# Altium integrated library Voltage Regulator - Linear.IntLib: 54 symbols
Pins are listed as number, name and electrical type; pins without a type are passive.

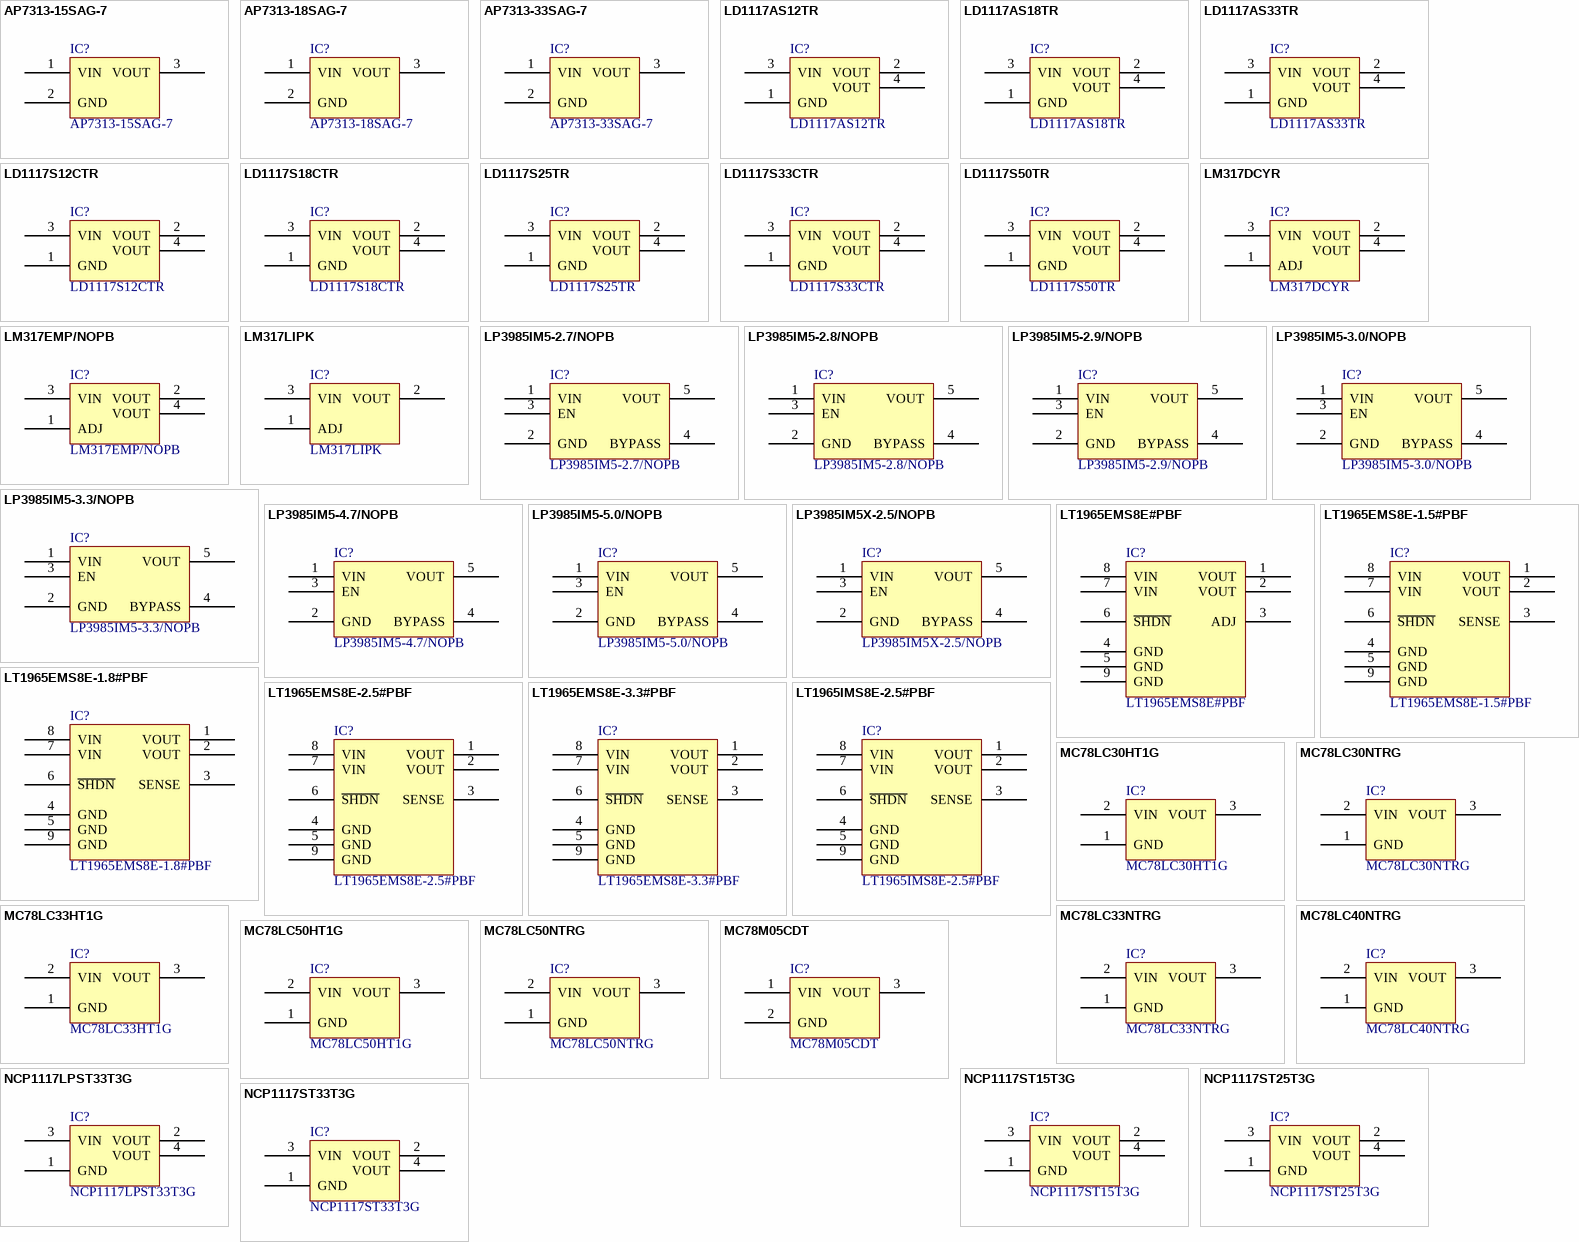
[diagram p0: symbols AP7313-15SAG-7 to NCP1117ST33T3G]

## AP7313-15SAG-7
designator IC?
IC REG LDO 1.5V 0.15A SOT23-3; Manufacturer: Diodes Incorporated; Topology: Positive Fixed; Voltage - Input: 2 V ~ 6 V; Current - Limit (Min): 200mA; Part Number: AP7313-15SAG-7; PartId: 7913; Supplier 1: Digi-Key; Supplier Part Number 1: AP7313-15SAG-7DITR-ND; ComponentLink1Description: Datasheet; ComponentLink1URL: http://www.diodes.com/_files/datasheets/AP7313.pdf; ComponentLink2Description: Digi-Key Listing; ComponentLink2URL: http://www.digikey.ca/product-detail/en/AP7313-15SAG-7/AP7313-15SAG-7DITR-ND/2270803; Price: 0.1675; Device Package: TO-236-3, SC-59, SOT-23-3; Voltage - Output: 1.5V; Voltage Dropout: -; Operating Temperature: -40C ~ 85C
footprint DIODES SOT-23-3
pins: 1 VIN, 2 GND, 3 VOUT

## AP7313-18SAG-7
designator IC?
IC REG LDO 1.8V 0.15A SOT23-3; Manufacturer: Diodes Incorporated; Topology: Positive Fixed; Voltage - Input: 2 V ~ 6 V; Current - Limit (Min): 200mA; Part Number: AP7313-18SAG-7; PartId: 7912; Supplier 1: Digi-Key; Supplier Part Number 1: AP7313-18SAG-7DITR-ND; ComponentLink1Description: Datasheet; ComponentLink1URL: http://www.diodes.com/_files/datasheets/AP7313.pdf; ComponentLink2Description: Digi-Key Listing; ComponentLink2URL: http://www.digikey.ca/product-detail/en/AP7313-18SAG-7/AP7313-18SAG-7DITR-ND/2270804; Price: 0.1675; Device Package: TO-236-3, SC-59, SOT-23-3; Voltage - Output: 1.8V; Voltage Dropout: -; Operating Temperature: -40C ~ 85C
footprint DIODES SOT-23-3
pins: 1 VIN, 2 GND, 3 VOUT

## AP7313-33SAG-7
designator IC?
IC REG LDO 3.3V 0.15A SOT23-3; Manufacturer: Diodes Incorporated; Topology: Positive Fixed; Voltage Dropout: 0.15V @ 150mA; Voltage - Input: Up to 6V; Current - Limit (Min): 200mA; Part Number: AP7313-33SAG-7; PartId: 7911; Supplier 1: Digi-Key; Supplier Part Number 1: AP7313-33SAG-7DITR-ND; ComponentLink1Description: Datasheet; ComponentLink1URL: http://www.diodes.com/_files/datasheets/AP7313.pdf; ComponentLink2Description: Digi-Key Listing; ComponentLink2URL: http://www.digikey.ca/product-detail/en/AP7313-33SAG-7/AP7313-33SAG-7DITR-ND/2270806; Price: 0.1675; Device Package: TO-236-3, SC-59, SOT-23-3; Voltage - Output: 3.3V; Operating Temperature: -40C ~ 85C
footprint DIODES SOT-23-3
pins: 1 VIN, 2 GND, 3 VOUT

## LD1117AS12TR
designator IC?
IC REG LDO 1.2V 1A SOT223; Manufacturer: STMicroelectronics; Topology: Positive Fixed; Voltage Dropout: 1.15V @ 1A; Voltage - Input: Up to 15V; Part Number: LD1117AS12TR; PartId: 7957; Supplier 1: Digi-Key; Supplier Part Number 1: 497-6445-2-ND; ComponentLink1Description: Datasheet; ComponentLink1URL: http://www.st.com/web/en/resource/technical/document/datasheet/CD00002116.pdf; ComponentLink2Description: Digi-Key Listing; ComponentLink2URL: http://www.digikey.com/product-detail/en/LD1117AS12TR/497-6445-2-ND/1038354; Price: 0.2537; Device Package: TO-261-4, TO-261AA; Voltage - Output: 1.2V; Current - Limit (Min): -; Operating Temperature: 0C ~ 125C
footprint ST SOT-223
pins: 1 GND, 2 VOUT, 3 VIN, 4 VOUT

## LD1117AS18TR
designator IC?
IC REG LDO 1.8V 1A SOT223; Manufacturer: STMicroelectronics; Topology: Positive Fixed; Voltage Dropout: 1.15V @ 1A; Voltage - Input: Up to 15V; Part Number: LD1117AS18TR; PartId: 7958; Supplier 1: Digi-Key; Supplier Part Number 1: 497-1226-2-ND; ComponentLink1Description: Datasheet; ComponentLink1URL: http://www.st.com/web/en/resource/technical/document/datasheet/CD00002116.pdf; ComponentLink2Description: Digi-Key Listing; ComponentLink2URL: http://www.digikey.com/product-detail/en/LD1117AS18TR/497-1226-2-ND/585750; Price: 0.2479; Device Package: TO-261-4, TO-261AA; Voltage - Output: 1.8V; Current - Limit (Min): -; Operating Temperature: 0C ~ 125C
footprint ST SOT-223
pins: 1 GND, 2 VOUT, 3 VIN, 4 VOUT

## LD1117AS33TR
designator IC?
IC REG LDO 3.3V 1A SOT223; Manufacturer: STMicroelectronics; Topology: Positive Fixed; Voltage Dropout: 1.15V @ 1A; Voltage - Input: Up to 15V; Part Number: LD1117AS33TR; PartId: 7959; Supplier 1: Digi-Key; Supplier Part Number 1: 497-1228-2-ND; ComponentLink1Description: Datasheet; ComponentLink1URL: http://www.st.com/web/en/resource/technical/document/datasheet/CD00002116.pdf; ComponentLink2Description: Digi-Key Listing; ComponentLink2URL: http://www.digikey.com/product-detail/en/LD1117AS33TR/497-1228-2-ND/585752; Price: 0.2479; Device Package: TO-261-4, TO-261AA; Voltage - Output: 3.3V; Current - Limit (Min): -; Operating Temperature: 0C ~ 125C
footprint ST SOT-223
pins: 1 GND, 2 VOUT, 3 VIN, 4 VOUT

## LD1117S12CTR
designator IC?
IC REG LDO 1.2V 0.8A SOT223; Manufacturer: STMicroelectronics; Topology: Positive Fixed; Voltage Dropout: 1.1V @ 800mA; Voltage - Input: Up to 15V; Part Number: LD1117S12CTR; PartId: 7960; Supplier 1: Digi-Key; Supplier Part Number 1: 497-6974-2-ND; ComponentLink1Description: Datasheet; ComponentLink1URL: http://www.st.com/web/en/resource/technical/document/datasheet/CD00000544.pdf; ComponentLink2Description: Digi-Key Listing; ComponentLink2URL: http://www.digikey.com/product-detail/en/LD1117S12CTR/497-6974-2-ND/1880164; Price: 0.1751; Device Package: TO-261-4, TO-261AA; Voltage - Output: 1.2V; Current - Limit (Min): -; Operating Temperature: -40C ~ 125C
footprint ST SOT-223
pins: 1 GND, 2 VOUT, 3 VIN, 4 VOUT

## LD1117S18CTR
designator IC?
IC REG LDO 1.8V 0.8A SOT223; Manufacturer: STMicroelectronics; Topology: Positive Fixed; Voltage Dropout: 1.1V @ 800mA; Voltage - Input: Up to 15V; Part Number: LD1117S18CTR; PartId: 7961; Supplier 1: Digi-Key; Supplier Part Number 1: 497-6868-2-ND; ComponentLink1Description: Datasheet; ComponentLink1URL: http://www.st.com/web/en/resource/technical/document/datasheet/CD00000544.pdf; ComponentLink2Description: Digi-Key Listing; ComponentLink2URL: http://www.digikey.com/product-detail/en/LD1117S18CTR/497-6868-2-ND/1820043; Price: 0.1627; Device Package: TO-261-4, TO-261AA; Voltage - Output: 1.8V; Current - Limit (Min): -; Operating Temperature: -40C ~ 125C
footprint ST SOT-223
pins: 1 GND, 2 VOUT, 3 VIN, 4 VOUT

## LD1117S25TR
designator IC?
IC REG LDO 2.5V 0.8A SOT223; Manufacturer: STMicroelectronics; Topology: Positive Fixed; Voltage Dropout: 1.1V @ 800mA; Voltage - Input: Up to 15V; Part Number: LD1117S25TR; PartId: 7962; Supplier 1: Digi-Key; Supplier Part Number 1: 497-7309-2-ND; ComponentLink1Description: Datasheet; ComponentLink1URL: http://www.st.com/web/en/resource/technical/document/datasheet/CD00000544.pdf; ComponentLink2Description: Digi-Key Listing; ComponentLink2URL: http://www.digikey.com/product-detail/en/LD1117S25TR/497-7309-2-ND/1663512; Price: 0.1336; Device Package: TO-261-4, TO-261AA; Voltage - Output: 2.5V; Current - Limit (Min): -; Operating Temperature: 0C ~ 125C
footprint ST SOT-223
pins: 1 GND, 2 VOUT, 3 VIN, 4 VOUT

## LD1117S33CTR
designator IC?
IC REG LDO 3.3V 0.8A SOT223; Manufacturer: STMicroelectronics; Topology: Positive Fixed; Voltage Dropout: 1.1V @ 800mA; Voltage - Input: Up to 15V; Part Number: LD1117S33CTR; PartId: 7963; Supplier 1: Digi-Key; Supplier Part Number 1: 497-1241-2-ND; ComponentLink1Description: Datasheet; ComponentLink1URL: http://www.st.com/web/en/resource/technical/document/datasheet/CD00000544.pdf; ComponentLink2Description: Digi-Key Listing; ComponentLink2URL: http://www.digikey.com/product-detail/en/LD1117S33CTR/497-1241-2-ND/585765; Price: 0.127; Device Package: TO-261-4, TO-261AA; Voltage - Output: 3.3V; Current - Limit (Min): -; Operating Temperature: -40C ~ 125C
footprint ST SOT-223
pins: 1 GND, 2 VOUT, 3 VIN, 4 VOUT

## LD1117S50TR
designator IC?
IC REG LDO 5V 0.8A SOT223; Manufacturer: STMicroelectronics; Topology: Positive Fixed; Voltage Dropout: 1.1V @ 800mA; Voltage - Input: Up to 15V; Part Number: LD1117S50TR; PartId: 7964; Supplier 1: Digi-Key; Supplier Part Number 1: 497-6447-2-ND; ComponentLink1Description: Datasheet; ComponentLink1URL: http://www.st.com/web/en/resource/technical/document/datasheet/CD00000544.pdf; ComponentLink2Description: Digi-Key Listing; ComponentLink2URL: http://www.digikey.com/product-detail/en/LD1117S50TR/497-6447-2-ND/1038360; Price: 0.127; Device Package: TO-261-4, TO-261AA; Voltage - Output: 5V; Current - Limit (Min): -; Operating Temperature: 0C ~ 125C
footprint ST SOT-223
pins: 1 GND, 2 VOUT, 3 VIN, 4 VOUT

## LM317DCYR
designator IC?
IC REG LDO ADJ 1.5A SOT223; Manufacturer: Texas Instruments; Topology: Positive Adjustable; Voltage - Output: 1.25 V ~ 37 V; Voltage - Input: 4.2 V ~ 40 V; Part Number: LM317DCYR; PartId: 7937; Supplier 1: Digi-Key; Supplier Part Number 1: 296-12602-2-ND; ComponentLink1Description: Datasheet; ComponentLink1URL: http://www.ti.com/lit/ds/symlink/lm317.pdf; ComponentLink2Description: Digi-Key Listing; ComponentLink2URL: http://www.digikey.ca/product-detail/en/LM317DCYR/296-12602-2-ND/443739; Price: 0.433; Device Package: TO-261-4, TO-261AA; Voltage Dropout: -; Current - Limit (Min): -; Operating Temperature: 0C ~ 125C
footprint TI SOT-223 DCY
pins: 1 ADJ, 2 VOUT, 3 VIN, 4 VOUT

## LM317EMP/NOPB
designator IC?
IC REG LDO ADJ 1A SOT223; Manufacturer: Texas Instruments; Topology: Positive Adjustable; Voltage - Output: 1.25 V ~ 37 V; Voltage - Input: 4.2 V ~ 37 V; Part Number: LM317EMP/NOPB; PartId: 7936; Supplier 1: Digi-Key; Supplier Part Number 1: LM317EMP/NOPBTR-ND; ComponentLink1Description: Datasheet; ComponentLink1URL: http://www.ti.com/lit/ds/symlink/lm117.pdf; ComponentLink2Description: Digi-Key Listing; ComponentLink2URL: http://www.digikey.ca/product-detail/en/LM317EMP%2FNOPB/LM317EMP%2FNOPBTR-ND/270715; Price: 0.7637; Device Package: TO-261-4, TO-261AA; Voltage Dropout: -; Current - Limit (Min): -; Operating Temperature: 0C ~ 125C
footprint TI SOT-223 DCY
pins: 1 ADJ, 2 VOUT, 3 VIN, 4 VOUT

## LM317LIPK
designator IC?
IC REG LDO ADJ 0.1A SOT89-3; Manufacturer: Texas Instruments; Topology: Positive Adjustable; Voltage - Output: 1.2 V ~ 32 V; Voltage - Input: 3.7 V ~ 38 V; Part Number: LM317LIPK; PartId: 7935; Supplier 1: Digi-Key; Supplier Part Number 1: 296-21742-2-ND; ComponentLink1Description: Datasheet; ComponentLink1URL: http://www.ti.com/lit/ds/symlink/lm317l.pdf; ComponentLink2Description: Digi-Key Listing; ComponentLink2URL: http://www.digikey.ca/product-detail/en/LM317LIPK/296-21742-2-ND/1628961; Price: 0.4396; Device Package: TO-243AA; Voltage Dropout: -; Current - Limit (Min): -; Operating Temperature: -40C ~ 125C
footprint TI SOT-89 PK
pins: 1 ADJ, 2 VOUT, 3 VIN

## LP3985IM5-2.7/NOPB
designator IC?
IC REG LDO 2.7V 0.15A SOT23-5; Manufacturer: Texas Instruments; Topology: Positive Fixed; Voltage Dropout: 0.06V @ 150mA; Voltage - Input: Up to 6V; Current - Limit (Min): 300mA; Part Number: LP3985IM5-2.7/NOPB; PartId: 7938; Supplier 1: Digi-Key; Supplier Part Number 1: LP3985IM5-2.7/NOPBTR-ND; ComponentLink1Description: Datasheet; ComponentLink1URL: http://www.ti.com/lit/ds/symlink/lp3985.pdf; ComponentLink2Description: Digi-Key Listing; ComponentLink2URL: http://www.digikey.ca/product-detail/en/LP3985IM5-2.7%2FNOPB/LP3985IM5-2.7%2FNOPBTR-ND/570140; Price: 0.2855; Device Package: SC-74A, SOT-753; Voltage - Output: 2.7V; Operating Temperature: -40C ~ 125C
footprint TI SOT-23-5 DBV
pins: 1 VIN, 2 GND, 3 EN, 4 BYPASS, 5 VOUT

## LP3985IM5-2.8/NOPB
designator IC?
IC REG LDO 2.8V 0.15A SOT23-5; Manufacturer: Texas Instruments; Topology: Positive Fixed; Voltage Dropout: 0.06V @ 150mA; Voltage - Input: Up to 6V; Current - Limit (Min): 300mA; Part Number: LP3985IM5-2.8/NOPB; PartId: 7939; Supplier 1: Digi-Key; Supplier Part Number 1: LP3985IM5-2.8/NOPBTR-ND; ComponentLink1Description: Datasheet; ComponentLink1URL: http://www.ti.com/lit/ds/symlink/lp3985.pdf; ComponentLink2Description: Digi-Key Listing; ComponentLink2URL: http://www.digikey.ca/product-detail/en/LP3985IM5-2.8%2FNOPB/LP3985IM5-2.8%2FNOPBTR-ND/499326; Price: 0.2855; Device Package: SC-74A, SOT-753; Voltage - Output: 2.8V; Operating Temperature: -40C ~ 125C
footprint TI SOT-23-5 DBV
pins: 1 VIN, 2 GND, 3 EN, 4 BYPASS, 5 VOUT

## LP3985IM5-2.9/NOPB
designator IC?
IC REG LDO 2.9V 0.15A SOT23-5; Manufacturer: Texas Instruments; Topology: Positive Fixed; Voltage Dropout: 0.06V @ 150mA; Voltage - Input: Up to 6V; Current - Limit (Min): 300mA; Part Number: LP3985IM5-2.9/NOPB; PartId: 7940; Supplier 1: Digi-Key; Supplier Part Number 1: LP3985IM5-2.9/NOPBTR-ND; ComponentLink1Description: Datasheet; ComponentLink1URL: http://www.ti.com/lit/ds/symlink/lp3985.pdf; ComponentLink2Description: Digi-Key Listing; ComponentLink2URL: http://www.digikey.ca/product-detail/en/LP3985IM5-2.9%2FNOPB/LP3985IM5-2.9%2FNOPBTR-ND/570141; Price: 0.2855; Device Package: SC-74A, SOT-753; Voltage - Output: 2.9V; Operating Temperature: -40C ~ 125C
footprint TI SOT-23-5 DBV
pins: 1 VIN, 2 GND, 3 EN, 4 BYPASS, 5 VOUT

## LP3985IM5-3.0/NOPB
designator IC?
IC REG LDO 3V 0.15A SOT23-5; Manufacturer: Texas Instruments; Topology: Positive Fixed; Voltage Dropout: 0.06V @ 150mA; Voltage - Input: Up to 6V; Current - Limit (Min): 300mA; Part Number: LP3985IM5-3.0/NOPB; PartId: 7941; Supplier 1: Digi-Key; Supplier Part Number 1: LP3985IM5-3.0/NOPBTR-ND; ComponentLink1Description: Datasheet; ComponentLink1URL: http://www.ti.com/lit/ds/symlink/lp3985.pdf; ComponentLink2Description: Digi-Key Listing; ComponentLink2URL: http://www.digikey.ca/product-detail/en/LP3985IM5-3.0%2FNOPB/LP3985IM5-3.0%2FNOPBTR-ND/440983; Price: 0.2855; Device Package: SC-74A, SOT-753; Voltage - Output: 3V; Operating Temperature: -40C ~ 125C
footprint TI SOT-23-5 DBV
pins: 1 VIN, 2 GND, 3 EN, 4 BYPASS, 5 VOUT

## LP3985IM5-3.3/NOPB
designator IC?
IC REG LDO 3.3V 0.15A SOT23-5; Manufacturer: Texas Instruments; Topology: Positive Fixed; Voltage Dropout: 0.06V @ 150mA; Voltage - Input: Up to 6V; Current - Limit (Min): 300mA; Part Number: LP3985IM5-3.3/NOPB; PartId: 7942; Supplier 1: Digi-Key; Supplier Part Number 1: LP3985IM5-3.3/NOPBTR-ND; ComponentLink1Description: Datasheet; ComponentLink1URL: http://www.ti.com/lit/ds/symlink/lp3985.pdf; ComponentLink2Description: Digi-Key Listing; ComponentLink2URL: http://www.digikey.ca/product-detail/en/LP3985IM5-3.3%2FNOPB/LP3985IM5-3.3%2FNOPBTR-ND/440984; Price: 0.2855; Device Package: SC-74A, SOT-753; Voltage - Output: 3.3V; Operating Temperature: -40C ~ 125C
footprint TI SOT-23-5 DBV
pins: 1 VIN, 2 GND, 3 EN, 4 BYPASS, 5 VOUT

## LP3985IM5-4.7/NOPB
designator IC?
IC REG LDO 4.7V 0.15A SOT23-5; Manufacturer: Texas Instruments; Topology: Positive Fixed; Voltage Dropout: 0.06V @ 150mA; Voltage - Input: Up to 6V; Current - Limit (Min): 300mA; Part Number: LP3985IM5-4.7/NOPB; PartId: 7943; Supplier 1: Digi-Key; Supplier Part Number 1: LP3985IM5-4.7/NOPBTR-ND; ComponentLink1Description: Datasheet; ComponentLink1URL: http://www.ti.com/lit/ds/symlink/lp3985.pdf; ComponentLink2Description: Digi-Key Listing; ComponentLink2URL: http://www.digikey.ca/product-detail/en/LP3985IM5-4.7%2FNOPB/LP3985IM5-4.7%2FNOPBTR-ND/483050; Price: 0.2855; Device Package: SC-74A, SOT-753; Voltage - Output: 4.7V; Operating Temperature: -40C ~ 125C
footprint TI SOT-23-5 DBV
pins: 1 VIN, 2 GND, 3 EN, 4 BYPASS, 5 VOUT

## LP3985IM5-5.0/NOPB
designator IC?
IC REG LDO 5V 0.15A SOT23-5; Manufacturer: Texas Instruments; Topology: Positive Fixed; Voltage Dropout: 0.06V @ 150mA; Voltage - Input: Up to 6V; Current - Limit (Min): 300mA; Part Number: LP3985IM5-5.0/NOPB; PartId: 7944; Supplier 1: Digi-Key; Supplier Part Number 1: LP3985IM5-5.0/NOPBTR-ND; ComponentLink1Description: Datasheet; ComponentLink1URL: http://www.ti.com/lit/ds/symlink/lp3985.pdf; ComponentLink2Description: Digi-Key Listing; ComponentLink2URL: http://www.digikey.ca/product-detail/en/LP3985IM5-5.0%2FNOPB/LP3985IM5-5.0%2FNOPBTR-ND/483051; Price: 0.2855; Device Package: SC-74A, SOT-753; Voltage - Output: 5V; Operating Temperature: -40C ~ 125C
footprint TI SOT-23-5 DBV
pins: 1 VIN, 2 GND, 3 EN, 4 BYPASS, 5 VOUT

## LP3985IM5X-2.5/NOPB
designator IC?
IC REG LDO 2.5V 0.15A SOT23-5; Manufacturer: Texas Instruments; Topology: Positive Fixed; Voltage Dropout: 0.06V @ 150mA; Voltage - Input: Up to 6V; Current - Limit (Min): 300mA; Part Number: LP3985IM5X-2.5/NOPB; PartId: 7945; Supplier 1: Digi-Key; Supplier Part Number 1: LP3985IM5X-2.5/NOPBTR-ND; ComponentLink1Description: Datasheet; ComponentLink1URL: http://www.ti.com/lit/ds/symlink/lp3985.pdf; ComponentLink2Description: Digi-Key Listing; ComponentLink2URL: http://www.digikey.ca/product-detail/en/LP3985IM5X-2.5%2FNOPB/LP3985IM5X-2.5%2FNOPBTR-ND/1872864; Price: 0.2855; Device Package: SC-74A, SOT-753; Voltage - Output: 2.5V; Operating Temperature: -40C ~ 125C
footprint TI SOT-23-5 DBV
pins: 1 VIN, 2 GND, 3 EN, 4 BYPASS, 5 VOUT

## LT1965EMS8E#PBF
designator IC?
IC REG LDO ADJ 1.1A 8MSOP; Manufacturer: Linear Technology; Topology: Positive Adjustable; Voltage - Output: 1.2 V ~ 19.5 V; Voltage Dropout: 0.31V @ 1.1A; Voltage - Input: 1.8 V ~ 20 V; Current - Limit (Min): 1.2A; Part Number: LT1965EMS8E#PBF; PartId: 7922; Supplier 1: Digi-Key; Supplier Part Number 1: LT1965EMS8E#PBF-ND; ComponentLink1Description: Datasheet; ComponentLink1URL: http://www.linear.com/docs/25320; ComponentLink2Description: Digi-Key Listing; ComponentLink2URL: http://www.digikey.ca/product-detail/en/LT1965EMS8E%23PBF/LT1965EMS8E%23PBF-ND/1730226; Price: 5.81; Device Package: 8-TSSOP, 8-MSOP (0.118", 3.00mm Width) Exposed Pad; Operating Temperature: -40C ~ 125C
footprint LT MSOP-8 MS8E 3x3MM
pins: 1 VOUT, 2 VOUT, 3 ADJ, 4 GND, 5 GND, 6 ~{SHDN}, 7 VIN, 8 VIN, 9 GND

## LT1965EMS8E-1.5#PBF
designator IC?
IC REG LDO 1.5V 1.1A 8MSOP; Manufacturer: Linear Technology; Topology: Positive Fixed; Voltage Dropout: 0.31V @ 1.1A; Voltage - Input: Up to 20V; Current - Limit (Min): 1.2A; Part Number: LT1965EMS8E-1.5#PBF; PartId: 7921; Supplier 1: Digi-Key; Supplier Part Number 1: LT1965EMS8E-1.5#PBF-ND; ComponentLink1Description: Datasheet; ComponentLink1URL: http://www.linear.com/docs/25320; ComponentLink2Description: Digi-Key Listing; ComponentLink2URL: http://www.digikey.ca/product-detail/en/LT1965EMS8E-1.5%23PBF/LT1965EMS8E-1.5%23PBF-ND/2074392; Price: 5.81; Device Package: 8-TSSOP, 8-MSOP (0.118", 3.00mm Width) Exposed Pad; Voltage - Output: 1.5V; Operating Temperature: -40C ~ 125C
footprint LT MSOP-8 MS8E 3x3MM
pins: 1 VOUT, 2 VOUT, 3 SENSE, 4 GND, 5 GND, 6 ~{SHDN}, 7 VIN, 8 VIN, 9 GND

## LT1965EMS8E-1.8#PBF
designator IC?
IC REG LDO 1.8V 1.1A 8MSOP; Manufacturer: Linear Technology; Topology: Positive Fixed; Voltage Dropout: 0.31V @ 1.1A; Voltage - Input: Up to 20V; Current - Limit (Min): 1.2A; Part Number: LT1965EMS8E-1.8#PBF; PartId: 7919; Supplier 1: Digi-Key; Supplier Part Number 1: LT1965EMS8E-1.8#PBF-ND; ComponentLink1Description: Datasheet; ComponentLink1URL: http://www.linear.com/docs/25320; ComponentLink2Description: Digi-Key Listing; ComponentLink2URL: http://www.digikey.ca/product-detail/en/LT1965EMS8E-1.8%23PBF/LT1965EMS8E-1.8%23PBF-ND/2074393; Price: 5.81; Device Package: 8-TSSOP, 8-MSOP (0.118", 3.00mm Width) Exposed Pad; Voltage - Output: 1.8V; Operating Temperature: -40C ~ 125C
footprint LT MSOP-8 MS8E 3x3MM
pins: 1 VOUT, 2 VOUT, 3 SENSE, 4 GND, 5 GND, 6 ~{SHDN}, 7 VIN, 8 VIN, 9 GND

## LT1965EMS8E-2.5#PBF
designator IC?
IC REG LDO 2.5V 1.1A 8MSOP; Manufacturer: Linear Technology; Topology: Positive Fixed; Voltage Dropout: 0.31V @ 1.1A; Voltage - Input: Up to 20V; Current - Limit (Min): 1.2A; Part Number: LT1965EMS8E-2.5#PBF; PartId: 7917; Supplier 1: Digi-Key; Supplier Part Number 1: LT1965EMS8E-2.5#PBF-ND; ComponentLink1Description: Datasheet; ComponentLink1URL: http://www.linear.com/docs/25320; ComponentLink2Description: Digi-Key Listing; ComponentLink2URL: http://www.digikey.ca/product-detail/en/LT1965EMS8E-2.5%23PBF/LT1965EMS8E-2.5%23PBF-ND/2074394; Price: 5.81; Device Package: 8-TSSOP, 8-MSOP (0.118", 3.00mm Width) Exposed Pad; Voltage - Output: 2.5V; Operating Temperature: -40C ~ 125C
footprint LT MSOP-8 MS8E 3x3MM
pins: 1 VOUT, 2 VOUT, 3 SENSE, 4 GND, 5 GND, 6 ~{SHDN}, 7 VIN, 8 VIN, 9 GND

## LT1965EMS8E-3.3#PBF
designator IC?
IC REG LDO 3.3V 1.1A 8MSOP; Manufacturer: Linear Technology; Topology: Positive Fixed; Voltage Dropout: 0.31V @ 1.1A; Voltage - Input: Up to 20V; Current - Limit (Min): 1.2A; Part Number: LT1965EMS8E-3.3#PBF; PartId: 7918; Supplier 1: Digi-Key; Supplier Part Number 1: LT1965EMS8E-3.3#PBF-ND; ComponentLink1Description: Datasheet; ComponentLink1URL: http://www.linear.com/docs/25320; ComponentLink2Description: Digi-Key Listing; ComponentLink2URL: http://www.digikey.ca/product-detail/en/LT1965EMS8E-3.3%23PBF/LT1965EMS8E-3.3%23PBF-ND/2074395; Price: 5.81; Device Package: 8-TSSOP, 8-MSOP (0.118", 3.00mm Width) Exposed Pad; Voltage - Output: 3.3V; Operating Temperature: -40C ~ 125C
footprint LT MSOP-8 MS8E 3x3MM
pins: 1 VOUT, 2 VOUT, 3 SENSE, 4 GND, 5 GND, 6 ~{SHDN}, 7 VIN, 8 VIN, 9 GND

## LT1965IMS8E-2.5#PBF
designator IC?
IC REG LDO 2.5V 1.1A 8MSOP; Manufacturer: Linear Technology; Topology: Positive Fixed; Voltage Dropout: 0.31V @ 1.1A; Voltage - Input: Up to 20V; Current - Limit (Min): 1.2A; Part Number: LT1965IMS8E-2.5#PBF; PartId: 7920; Supplier 1: Digi-Key; Supplier Part Number 1: LT1965IMS8E-2.5#PBF-ND; ComponentLink1Description: Datasheet; ComponentLink1URL: http://www.linear.com/docs/25320; ComponentLink2Description: Digi-Key Listing; ComponentLink2URL: http://www.digikey.ca/product-detail/en/LT1965IMS8E-2.5%23PBF/LT1965IMS8E-2.5%23PBF-ND/1931046; Price: 6.67; Device Package: 8-TSSOP, 8-MSOP (0.118", 3.00mm Width) Exposed Pad; Voltage - Output: 2.5V; Operating Temperature: -40C ~ 125C
footprint LT MSOP-8 MS8E 3x3MM
pins: 1 VOUT, 2 VOUT, 3 SENSE, 4 GND, 5 GND, 6 ~{SHDN}, 7 VIN, 8 VIN, 9 GND

## MC78LC30HT1G
designator IC?
IC REG LDO 3V 50MA SOT89-3; Manufacturer: ON Semiconductor; Topology: Positive Fixed; Voltage Dropout: 0.03V @ 1mA; Voltage - Input: Up to 12V; Part Number: MC78LC30HT1G; PartId: 7930; Supplier 1: Digi-Key; Supplier Part Number 1: MC78LC30HT1GOSTR-ND; ComponentLink1Description: Datasheet; ComponentLink1URL: http://www.onsemi.com/pub_link/Collateral/MC78LC00-D.PDF; ComponentLink2Description: Digi-Key Listing; ComponentLink2URL: http://www.digikey.ca/product-detail/en/MC78LC30HT1G/MC78LC30HT1GOSTR-ND/1481407; Price: 0.4396; Device Package: TO-243AA; Voltage - Output: 3V; Current - Limit (Min): -; Operating Temperature: -40C ~ 85C
footprint ON SEMI SOT-89 H
pins: 1 GND, 2 VIN, 3 VOUT

## MC78LC30NTRG
designator IC?
IC REG LDO 3V 50MA 5TSOP; Manufacturer: ON Semiconductor; Topology: Positive Fixed; Voltage Dropout: 0.03V @ 1mA; Voltage - Input: Up to 12V; Part Number: MC78LC30NTRG; PartId: 7923; Supplier 1: Digi-Key; Supplier Part Number 1: MC78LC30NTRGOSTR-ND; ComponentLink1Description: Datasheet; ComponentLink1URL: http://www.onsemi.com/pub_link/Collateral/MC78LC00-D.PDF; ComponentLink2Description: Digi-Key Listing; ComponentLink2URL: http://www.digikey.ca/product-detail/en/MC78LC30NTRG/MC78LC30NTRGOSTR-ND/919363; Price: 0.4618; Device Package: SOT-23-5 Thin, TSOT-23-5; Voltage - Output: 3V; Current - Limit (Min): -; Operating Temperature: -40C ~ 85C
footprint ON SEMI SOT-23-5 NTR
pins: 1 GND, 2 VIN, 3 VOUT

## MC78LC33HT1G
designator IC?
IC REG LDO 3.3V 50MA SOT89-3; Manufacturer: ON Semiconductor; Topology: Positive Fixed; Voltage Dropout: 0.03V @ 1mA; Voltage - Input: Up to 12V; Part Number: MC78LC33HT1G; PartId: 7927; Supplier 1: Digi-Key; Supplier Part Number 1: MC78LC33HT1GOSTR-ND; ComponentLink1Description: Datasheet; ComponentLink1URL: http://www.onsemi.com/pub_link/Collateral/MC78LC00-D.PDF; ComponentLink2Description: Digi-Key Listing; ComponentLink2URL: http://www.digikey.ca/product-detail/en/MC78LC33HT1G/MC78LC33HT1GOSTR-ND/919364; Price: 0.4396; Device Package: TO-243AA; Voltage - Output: 3.3V; Current - Limit (Min): -; Operating Temperature: -40C ~ 85C
footprint ON SEMI SOT-89 H
pins: 1 GND, 2 VIN, 3 VOUT

## MC78LC33NTRG
designator IC?
IC REG LDO 3.3V 50MA 5TSOP; Manufacturer: ON Semiconductor; Topology: Positive Fixed; Voltage Dropout: 0.03V @ 1mA; Voltage - Input: Up to 12V; Part Number: MC78LC33NTRG; PartId: 7924; Supplier 1: Digi-Key; Supplier Part Number 1: MC78LC33NTRGOSTR-ND; ComponentLink1Description: Datasheet; ComponentLink1URL: http://www.onsemi.com/pub_link/Collateral/MC78LC00-D.PDF; ComponentLink2Description: Digi-Key Listing; ComponentLink2URL: http://www.digikey.ca/product-detail/en/MC78LC33NTRG/MC78LC33NTRGOSTR-ND/919365; Price: 0.4618; Device Package: SOT-23-5 Thin, TSOT-23-5; Voltage - Output: 3.3V; Current - Limit (Min): -; Operating Temperature: -40C ~ 85C
footprint ON SEMI SOT-23-5 NTR
pins: 1 GND, 2 VIN, 3 VOUT

## MC78LC40NTRG
designator IC?
IC REG LDO 4V 80MA 5TSOP; Manufacturer: ON Semiconductor; Topology: Positive Fixed; Voltage Dropout: 0.03V @ 1mA; Voltage - Input: Up to 12V; Part Number: MC78LC40NTRG; PartId: 7925; Supplier 1: Digi-Key; Supplier Part Number 1: MC78LC40NTRGOSTR-ND; ComponentLink1Description: Datasheet; ComponentLink1URL: http://www.onsemi.com/pub_link/Collateral/MC78LC00-D.PDF; ComponentLink2Description: Digi-Key Listing; ComponentLink2URL: http://www.digikey.ca/product-detail/en/MC78LC40NTRG/MC78LC40NTRGOSTR-ND/1481410; Price: 0.4618; Device Package: SOT-23-5 Thin, TSOT-23-5; Voltage - Output: 4V; Current - Limit (Min): -; Operating Temperature: -40C ~ 85C
footprint ON SEMI SOT-23-5 NTR
pins: 1 GND, 2 VIN, 3 VOUT

## MC78LC50HT1G
designator IC?
IC REG LDO 5V 80MA SOT89-3; Manufacturer: ON Semiconductor; Topology: Positive Fixed; Voltage Dropout: 0.03V @ 1mA; Voltage - Input: Up to 12V; Part Number: MC78LC50HT1G; PartId: 7928; Supplier 1: Digi-Key; Supplier Part Number 1: MC78LC50HT1GOSTR-ND; ComponentLink1Description: Datasheet; ComponentLink1URL: http://www.onsemi.com/pub_link/Collateral/MC78LC00-D.PDF; ComponentLink2Description: Digi-Key Listing; ComponentLink2URL: http://www.digikey.ca/product-detail/en/MC78LC50HT1G/MC78LC50HT1GOSTR-ND/1749001; Price: 0.4396; Device Package: TO-243AA; Voltage - Output: 5V; Current - Limit (Min): -; Operating Temperature: -40C ~ 85C
footprint ON SEMI SOT-89 H
pins: 1 GND, 2 VIN, 3 VOUT

## MC78LC50NTRG
designator IC?
IC REG LDO 5V 80MA 5TSOP; Manufacturer: ON Semiconductor; Topology: Positive Fixed; Voltage Dropout: 0.03V @ 1mA; Voltage - Input: Up to 12V; Part Number: MC78LC50NTRG; PartId: 7926; Supplier 1: Digi-Key; Supplier Part Number 1: MC78LC50NTRGOSTR-ND; ComponentLink1Description: Datasheet; ComponentLink1URL: http://www.onsemi.com/pub_link/Collateral/MC78LC00-D.PDF; ComponentLink2Description: Digi-Key Listing; ComponentLink2URL: http://www.digikey.ca/product-detail/en/MC78LC50NTRG/MC78LC50NTRGOSTR-ND/919367; Price: 0.4618; Device Package: SOT-23-5 Thin, TSOT-23-5; Voltage - Output: 5V; Current - Limit (Min): -; Operating Temperature: -40C ~ 85C
footprint ON SEMI SOT-23-5 NTR
pins: 1 GND, 2 VIN, 3 VOUT

## MC78M05CDT
designator IC?
IC REG LDO 5V 80MA SOT89-3; Manufacturer: ON Semiconductor; Topology: Positive Fixed; Voltage Dropout: 0.03V @ 1mA; Voltage - Input: Up to 35V; Part Number: MC78M05CDT; Supplier 1: Digi-Key; Supplier Part Number 1: MC78M05CDTRKGOSTR-ND; ComponentLink1Description: Datasheet; ComponentLink1URL: http://www.onsemi.com/pub/Collateral/MC78M00-D.PDF; ComponentLink2Description: Digi-Key Listing; ComponentLink2URL: https://www.digikey.com/product-detail/en/on-semiconductor/MC78M05CDTRKG/MC78M05CDTRKGOSTR-ND/660633; Price: 0.157; Device Package: TO-252-3, DPak (2 Leads + Tab), SC-63; Voltage - Output: 5V; Current - Limit (Min): -; Operating Temperature: 0°C ~ 125°C
footprint ON SEMI TO-252-3
pins: 1 VIN, 2 GND, 3 VOUT

## NCP1117LPST33T3G
designator IC?
IC REG LDO 3.3V 1A SOT223; Manufacturer: ON Semiconductor; Topology: Positive Fixed; Voltage Dropout: 1.3V @ 1A; Voltage - Input: Up to 18V; Current - Limit (Min): 1.1A; Part Number: NCP1117LPST33T3G; PartId: 7931; Supplier 1: Digi-Key; Supplier Part Number 1: NCP1117LPST33T3GOSTR-ND; ComponentLink1Description: Datasheet; ComponentLink1URL: http://www.onsemi.com/pub_link/Collateral/NCP1117LP-D.PDF; ComponentLink2Description: Digi-Key Listing; ComponentLink2URL: http://www.digikey.ca/product-detail/en/NCP1117LPST33T3G/NCP1117LPST33T3GOSTR-ND/2194024; Price: 0.1843; Device Package: TO-261-4, TO-261AA; Voltage - Output: 3.3V; Operating Temperature: 0C ~ 125C
footprint ON SEMI SOT-223 ST(318H)
pins: 1 GND, 2 VOUT, 3 VIN, 4 VOUT

## NCP1117ST15T3G
designator IC?
IC REG LDO 1.5V 1A SOT223; Manufacturer: ON Semiconductor; Topology: Positive Fixed; Voltage Dropout: 1.07V @ 800mA; Voltage - Input: Up to 20V; Part Number: NCP1117ST15T3G; PartId: 7934; Supplier 1: Digi-Key; Supplier Part Number 1: NCP1117ST15T3GOSTR-ND; ComponentLink1Description: Datasheet; ComponentLink1URL: http://www.onsemi.com/pub_link/Collateral/NCP1117-D.PDF; ComponentLink2Description: Digi-Key Listing; ComponentLink2URL: http://www.digikey.ca/product-detail/en/NCP1117ST15T3G/NCP1117ST15T3GOSTR-ND/921287; Price: 0.2342; Device Package: TO-261-4, TO-261AA; Voltage - Output: 1.5V; Current - Limit (Min): 1A; Operating Temperature: 0C ~ 125C
footprint ON SEMI SOT-223 ST(318H)
pins: 1 GND, 2 VOUT, 3 VIN, 4 VOUT

## NCP1117ST25T3G
designator IC?
IC REG LDO 2.5V 1A SOT223; Manufacturer: ON Semiconductor; Topology: Positive Fixed; Voltage Dropout: 1.07V @ 800mA; Voltage - Input: Up to 20V; Part Number: NCP1117ST25T3G; PartId: 7933; Supplier 1: Digi-Key; Supplier Part Number 1: NCP1117ST25T3GOSTR-ND; ComponentLink1Description: Datasheet; ComponentLink1URL: http://www.onsemi.com/pub_link/Collateral/NCP1117-D.PDF; ComponentLink2Description: Digi-Key Listing; ComponentLink2URL: http://www.digikey.ca/product-detail/en/NCP1117ST25T3G/NCP1117ST25T3GOSTR-ND/660705; Price: 0.2342; Device Package: TO-261-4, TO-261AA; Voltage - Output: 2.5V; Current - Limit (Min): 1A; Operating Temperature: 0C ~ 125C
footprint ON SEMI SOT-223 ST(318H)
pins: 1 GND, 2 VOUT, 3 VIN, 4 VOUT

## NCP1117ST33T3G
designator IC?
IC REG LDO 3.3V 1A SOT223; Manufacturer: ON Semiconductor; Topology: Positive Fixed; Voltage Dropout: 1.07V @ 800mA; Voltage - Input: Up to 20V; Part Number: NCP1117ST33T3G; PartId: 7932; Supplier 1: Digi-Key; Supplier Part Number 1: NCP1117ST33T3GOSTR-ND; ComponentLink1Description: Datasheet; ComponentLink1URL: http://www.onsemi.com/pub_link/Collateral/NCP1117-D.PDF; ComponentLink2Description: Digi-Key Listing; ComponentLink2URL: http://www.digikey.ca/product-detail/en/NCP1117ST33T3G/NCP1117ST33T3GOSTR-ND/1749063; Price: 0.2342; Device Package: TO-261-4, TO-261AA; Voltage - Output: 3.3V; Current - Limit (Min): 1A; Operating Temperature: 0C ~ 125C
footprint ON SEMI SOT-223 ST(318H)
pins: 1 GND, 2 VOUT, 3 VIN, 4 VOUT

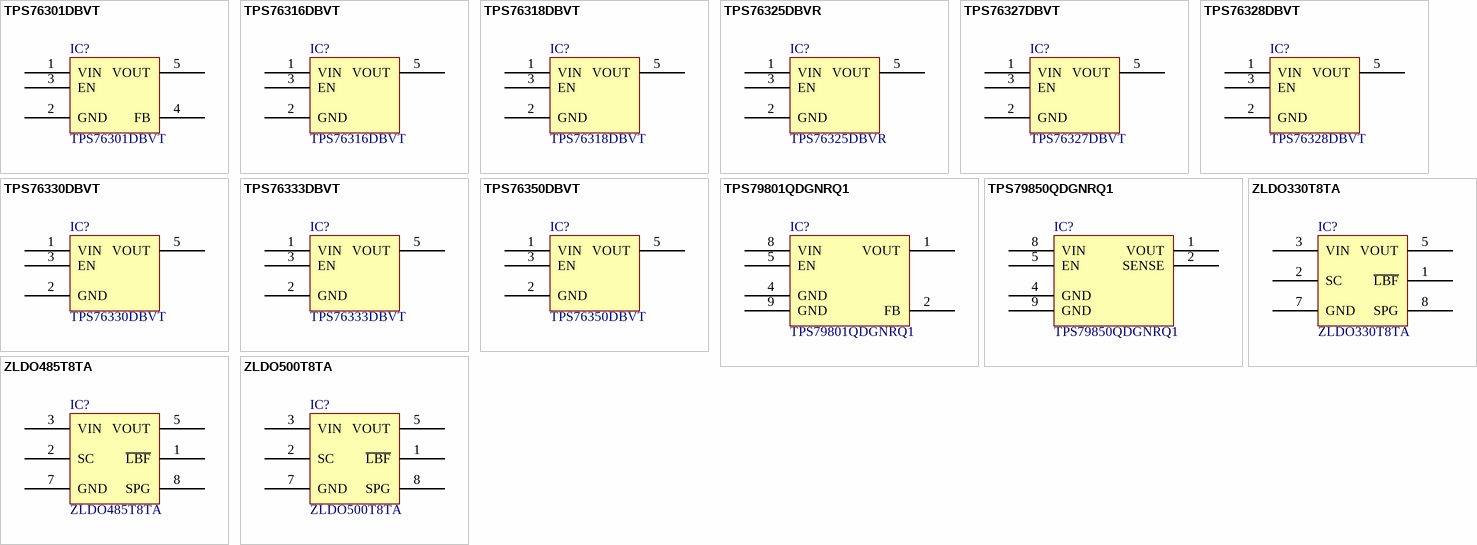
[diagram p1: symbols TPS76301DBVT to ZLDO500T8TA]

## TPS76301DBVT
designator IC?
IC REG LDO ADJ 0.15A SOT23-5; Manufacturer: Texas Instruments; Topology: Positive Adjustable; Voltage - Output: 1.5 V ~ 6.5 V; Voltage Dropout: 0.3V @ 150mA; Voltage - Input: 2.7 V ~ 10 V; Current - Limit (Min): 500mA; Part Number: TPS76301DBVT; PartId: 7946; Supplier 1: Digi-Key; Supplier Part Number 1: 296-2698-2-ND; ComponentLink1Description: Datasheet; ComponentLink1URL: http://www.ti.com/lit/ds/symlink/tps763.pdf; ComponentLink2Description: Digi-Key Listing; ComponentLink2URL: http://www.digikey.ca/product-detail/en/TPS76301DBVT/296-2698-2-ND/306571; Price: 0.8764; Device Package: SC-74A, SOT-753; Operating Temperature: -40C ~ 125C
footprint TI SOT-23-5 DBV
pins: 1 VIN "Desc1", 2 GND "Desc1", 3 EN "Desc1", 4 FB "Desc1", 5 VOUT "Desc1"

## TPS76316DBVT
designator IC?
IC REG LDO 1.6V 0.15A SOT23-5; Manufacturer: Texas Instruments; Topology: Positive Fixed; Voltage - Input: 2.7 V ~ 10 V; Current - Limit (Min): 500mA; Part Number: TPS76316DBVT; PartId: 7947; Supplier 1: Digi-Key; Supplier Part Number 1: 296-2699-2-ND; ComponentLink1Description: Datasheet; ComponentLink1URL: http://www.ti.com/lit/ds/symlink/tps763.pdf; ComponentLink2Description: Digi-Key Listing; ComponentLink2URL: http://www.digikey.ca/product-detail/en/TPS76316DBVT/296-2699-2-ND/306572; Price: 0.8764; Device Package: SC-74A, SOT-753; Voltage - Output: 1.6V; Voltage Dropout: -; Operating Temperature: -40C ~ 125C
footprint TI SOT-23-5 DBV
pins: 1 VIN "Desc1", 2 GND "Desc1", 3 EN "Desc1", 5 VOUT "Desc1"

## TPS76318DBVT
designator IC?
IC REG LDO 1.8V 0.15A SOT23-5; Manufacturer: Texas Instruments; Topology: Positive Fixed; Voltage - Input: 2.7 V ~ 10 V; Current - Limit (Min): 500mA; Part Number: TPS76318DBVT; PartId: 7948; Supplier 1: Digi-Key; Supplier Part Number 1: 296-2700-2-ND; ComponentLink1Description: Datasheet; ComponentLink1URL: http://www.ti.com/lit/ds/symlink/tps763.pdf; ComponentLink2Description: Digi-Key Listing; ComponentLink2URL: http://www.digikey.ca/product-detail/en/TPS76318DBVT/296-2700-2-ND/306573; Price: 0.8764; Device Package: SC-74A, SOT-753; Voltage - Output: 1.8V; Voltage Dropout: -; Operating Temperature: -40C ~ 125C
footprint TI SOT-23-5 DBV
pins: 1 VIN "Desc1", 2 GND "Desc1", 3 EN "Desc1", 5 VOUT "Desc1"

## TPS76325DBVR
designator IC?
IC REG LDO 2.5V 0.15A SOT23-5; Manufacturer: Texas Instruments; Topology: Positive Fixed; Voltage Dropout: 0.36V @ 150mA; Voltage - Input: Up to 10V; Current - Limit (Min): 500mA; Part Number: TPS76325DBVR; PartId: 7949; Supplier 1: Digi-Key; Supplier Part Number 1: 296-11017-2-ND; ComponentLink1Description: Datasheet; ComponentLink1URL: http://www.ti.com/lit/ds/symlink/tps763.pdf; ComponentLink2Description: Digi-Key Listing; ComponentLink2URL: http://www.digikey.ca/product-detail/en/TPS76325DBVR/296-11017-2-ND/382155; Price: 0.5174; Device Package: SC-74A, SOT-753; Voltage - Output: 2.5V; Operating Temperature: -40C ~ 125C
footprint TI SOT-23-5 DBV
pins: 1 VIN "Desc1", 2 GND "Desc1", 3 EN "Desc1", 5 VOUT "Desc1"

## TPS76327DBVT
designator IC?
IC REG LDO 2.7V 0.15A SOT23-5; Manufacturer: Texas Instruments; Topology: Positive Fixed; Voltage - Input: 2.7 V ~ 10 V; Current - Limit (Min): 500mA; Part Number: TPS76327DBVT; PartId: 7950; Supplier 1: Digi-Key; Supplier Part Number 1: 296-2702-2-ND; ComponentLink1Description: Datasheet; ComponentLink1URL: http://www.ti.com/lit/ds/symlink/tps763.pdf; ComponentLink2Description: Digi-Key Listing; ComponentLink2URL: http://www.digikey.ca/product-detail/en/TPS76327DBVT/296-2702-2-ND/306575; Price: 0.8764; Device Package: SC-74A, SOT-753; Voltage - Output: 2.7V; Voltage Dropout: -; Operating Temperature: -40C ~ 125C
footprint TI SOT-23-5 DBV
pins: 1 VIN "Desc1", 2 GND "Desc1", 3 EN "Desc1", 5 VOUT "Desc1"

## TPS76328DBVT
designator IC?
IC REG LDO 2.8V 0.15A SOT23-5; Manufacturer: Texas Instruments; Topology: Positive Fixed; Voltage - Input: Up to 10V; Current - Limit (Min): 500mA; Part Number: TPS76328DBVT; PartId: 7951; Supplier 1: Digi-Key; Supplier Part Number 1: 296-2703-2-ND; ComponentLink1Description: Datasheet; ComponentLink1URL: http://www.ti.com/lit/ds/symlink/tps763.pdf; ComponentLink2Description: Digi-Key Listing; ComponentLink2URL: http://www.digikey.ca/product-detail/en/TPS76328DBVT/296-2703-2-ND/306576; Price: 0.8764; Device Package: SC-74A, SOT-753; Voltage - Output: 2.8V; Voltage Dropout: -; Operating Temperature: -40C ~ 125C
footprint TI SOT-23-5 DBV
pins: 1 VIN "Desc1", 2 GND "Desc1", 3 EN "Desc1", 5 VOUT "Desc1"

## TPS76330DBVT
designator IC?
IC REG LDO 3V 0.15A SOT23-5; Manufacturer: Texas Instruments; Topology: Positive Fixed; Voltage - Input: Up to 10V; Current - Limit (Min): 500mA; Part Number: TPS76330DBVT; PartId: 7952; Supplier 1: Digi-Key; Supplier Part Number 1: 296-2704-2-ND; ComponentLink1Description: Datasheet; ComponentLink1URL: http://www.ti.com/lit/ds/symlink/tps763.pdf; ComponentLink2Description: Digi-Key Listing; ComponentLink2URL: http://www.digikey.ca/product-detail/en/TPS76330DBVT/296-2704-2-ND/306577; Price: 0.8764; Device Package: SC-74A, SOT-753; Voltage - Output: 3V; Voltage Dropout: -; Operating Temperature: -40C ~ 125C
footprint TI SOT-23-5 DBV
pins: 1 VIN "Desc1", 2 GND "Desc1", 3 EN "Desc1", 5 VOUT "Desc1"

## TPS76333DBVT
designator IC?
IC REG LDO 3.3V 0.15A SOT23-5; Manufacturer: Texas Instruments; Topology: Positive Fixed; Voltage Dropout: 0.3V @ 150mA; Voltage - Input: Up to 10V; Current - Limit (Min): 500mA; Part Number: TPS76333DBVT; PartId: 7953; Supplier 1: Digi-Key; Supplier Part Number 1: 296-2705-2-ND; ComponentLink1Description: Datasheet; ComponentLink1URL: http://www.ti.com/lit/ds/symlink/tps763.pdf; ComponentLink2Description: Digi-Key Listing; ComponentLink2URL: http://www.digikey.ca/product-detail/en/TPS76333DBVT/296-2705-2-ND/306578; Price: 0.8764; Device Package: SC-74A, SOT-753; Voltage - Output: 3.3V; Operating Temperature: -40C ~ 125C
footprint TI SOT-23-5 DBV
pins: 1 VIN "Desc1", 2 GND "Desc1", 3 EN "Desc1", 5 VOUT "Desc1"

## TPS76350DBVT
designator IC?
IC REG LDO 5V 0.15A SOT23-5; Manufacturer: Texas Instruments; Topology: Positive Fixed; Voltage Dropout: 0.18V @ 150mA; Voltage - Input: Up to 10V; Current - Limit (Min): 500mA; Part Number: TPS76350DBVT; PartId: 7954; Supplier 1: Digi-Key; Supplier Part Number 1: 296-2707-2-ND; ComponentLink1Description: Datasheet; ComponentLink1URL: http://www.ti.com/lit/ds/symlink/tps763.pdf; ComponentLink2Description: Digi-Key Listing; ComponentLink2URL: http://www.digikey.ca/product-detail/en/TPS76350DBVT/296-2707-2-ND/306580; Price: 0.8764; Device Package: SC-74A, SOT-753; Voltage - Output: 5V; Operating Temperature: -40C ~ 125C
footprint TI SOT-23-5 DBV
pins: 1 VIN "Desc1", 2 GND "Desc1", 3 EN "Desc1", 5 VOUT "Desc1"

## TPS79801QDGNRQ1
designator IC?
IC REG LDO ADJ 50MA 8MSOP; Manufacturer: Texas Instruments; Topology: Positive Adjustable; Voltage - Output: 1.275 V ~ 28 V; Voltage Dropout: 0.3V @ 50mA; Voltage - Input: 3 V ~ 50 V; Current - Limit (Min): 60mA; Part Number: TPS79801QDGNRQ1; PartId: 7955; Supplier 1: Digi-Key; Supplier Part Number 1: 296-24322-2-ND; ComponentLink1Description: Datasheet; ComponentLink1URL: http://www.ti.com/lit/ds/symlink/tps79801-q1.pdf; ComponentLink2Description: Digi-Key Listing; ComponentLink2URL: http://www.digikey.ca/product-detail/en/TPS79801QDGNRQ1/296-24322-2-ND/2043914; Price: 1.1759; Device Package: 8-TSSOP, 8-MSOP (0.118", 3.00mm Width) Exposed Pad; Operating Temperature: -40C ~ 125C
footprint TI MSOP-8 DGN
pins: 1 VOUT, 2 FB, 4 GND, 5 EN, 8 VIN, 9 GND

## TPS79850QDGNRQ1
designator IC?
IC REG LDO 5V 50MA 8MSOP; Manufacturer: Texas Instruments; Topology: Positive Fixed; Voltage Dropout: 0.3V @ 50mA; Voltage - Input: Up to 50V; Current - Limit (Min): 60mA; Part Number: TPS79850QDGNRQ1; PartId: 7956; Supplier 1: Digi-Key; Supplier Part Number 1: 296-24323-2-ND; ComponentLink1Description: Datasheet; ComponentLink1URL: http://www.ti.com/lit/ds/symlink/tps79801-q1.pdf; ComponentLink2Description: Digi-Key Listing; ComponentLink2URL: http://www.digikey.ca/product-detail/en/TPS79850QDGNRQ1/296-24323-2-ND/2043915; Price: 1.1759; Device Package: 8-TSSOP, 8-MSOP (0.118", 3.00mm Width) Exposed Pad; Voltage - Output: 5V; Operating Temperature: -40C ~ 125C
footprint TI MSOP-8 DGN
pins: 1 VOUT, 2 SENSE, 4 GND, 5 EN, 8 VIN, 9 GND

## ZLDO330T8TA
designator IC?
IC REG LDO 3.3V 0.3A SM8; Manufacturer: Diodes Incorporated; Topology: Positive Fixed; Voltage Dropout: 0.1V @ 300mA; Voltage - Input: Up to 20V; Part Number: ZLDO330T8TA; PartId: 7916; Supplier 1: Digi-Key; Supplier Part Number 1: ZLDO330T8TR-ND; ComponentLink1Description: Datasheet; ComponentLink1URL: http://www.diodes.com/_files/datasheets/ZLDO330.pdf; ComponentLink2Description: Digi-Key Listing; ComponentLink2URL: http://www.digikey.ca/product-detail/en/ZLDO330T8TA/ZLDO330T8TR-ND/243066; Price: 1.0825; Device Package: SOT-223-8; Voltage - Output: 3.3V; Current - Limit (Min): -; Operating Temperature: -40C ~ 85C
footprint DIODES SM-8
pins: 1 ~{LBF} "Low Battery Flag", 2 SC "Shutdown Control", 3 VIN, 5 VOUT "1uF or greater", 7 GND, 8 SPG "Shaping - 10pF to Vout"

## ZLDO485T8TA
designator IC?
IC REG LDO 4.85V 0.3A SM8; Manufacturer: Diodes Incorporated; Topology: Positive Fixed; Voltage Dropout: 0.1V @ 300mA; Voltage - Input: Up to 20V; Part Number: ZLDO485T8TA; PartId: 7915; Supplier 1: Digi-Key; Supplier Part Number 1: ZLDO485T8TR-ND; ComponentLink1Description: Datasheet; ComponentLink1URL: http://www.diodes.com/_files/datasheets/ZLDO485.pdf; ComponentLink2Description: Digi-Key Listing; ComponentLink2URL: http://www.digikey.ca/product-detail/en/ZLDO485T8TA/ZLDO485T8TR-ND/243067; Price: 1.0825; Device Package: SOT-223-8; Voltage - Output: 4.85V; Current - Limit (Min): -; Operating Temperature: -40C ~ 85C
footprint DIODES SM-8
pins: 1 ~{LBF} "Low Battery Flag", 2 SC "Shutdown Control", 3 VIN, 5 VOUT "1uF or greater", 7 GND, 8 SPG "Shaping - 10pF to Vout"

## ZLDO500T8TA
designator IC?
IC REG LDO 5V 0.3A SM8; Manufacturer: Diodes Incorporated; Topology: Positive Fixed; Voltage Dropout: 0.1V @ 300mA; Voltage - Input: Up to 20V; Part Number: ZLDO500T8TA; PartId: 7914; Supplier 1: Digi-Key; Supplier Part Number 1: ZLDO500T8TR-ND; ComponentLink1Description: Datasheet; ComponentLink1URL: http://www.diodes.com/_files/datasheets/ZLDO500.pdf; ComponentLink2Description: Digi-Key Listing; ComponentLink2URL: http://www.digikey.ca/product-detail/en/ZLDO500T8TA/ZLDO500T8TR-ND/243068; Price: 1.0825; Device Package: SOT-223-8; Voltage - Output: 5V; Current - Limit (Min): -; Operating Temperature: -40C ~ 85C
footprint DIODES SM-8
pins: 1 ~{LBF} "Low Battery Flag", 2 SC "Shutdown Control", 3 VIN, 5 VOUT "1uF or greater", 7 GND, 8 SPG "Shaping - 10pF to Vout"